# EAGLE library part TPS3851H50EQDRBRQ1 (library TPS3851H50EQDRBRQ1)
Automotive High-Accuracy Voltage Supervisor With Integrated Watchdog Timer Source: Datasheet <http://www.ti.com/lit/gpn/tps3851-q1>
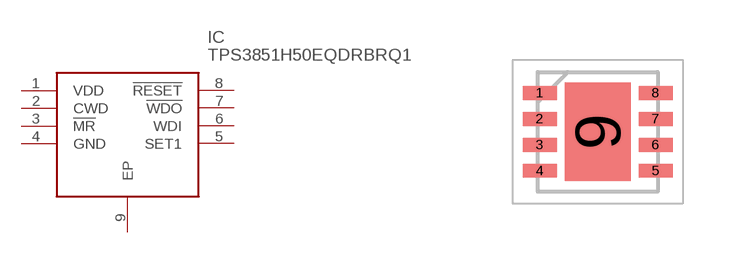
[diagram p0: symbol with the pads of SON65P300X300X100-9N; footprint SON65P300X300X100-9N]

Designator prefix IC

## TPS3851H50EQDRBRQ1 (Arrow_Part_Number: TPS3851H50EQDRBRQ1; Arrow_Price-Stock: https://www.arrow.com/en/products/tps3851h50eqdrbrq1/texas-instruments?utm_currency=USD&region=nac; Description: Automotive High-Accuracy Voltage Supervisor With Integrated Watchdog Timer; Height: 1mm; Manufacturer_Name: Texas Instruments; Manufacturer_Part_Number: TPS3851H50EQDRBRQ1; Mouser_Part_Number: 595-S3851H50EQDRBRQ1; Mouser_Price-Stock: https://www.mouser.com/Search/Refine.aspx?Keyword=595-S3851H50EQDRBRQ1)  [SON65P300X300X100-9N]
1  VDD
2  CWD
3  !MR
4  GND
5  SET1
6  WDI
7  !WDO
8  !RESET
9  EP

## Footprint SON65P300X300X100-9N (pad centres in mm)
son-drb
smd 0.85 x 0.35: 1 -1.45,0.975; 2 -1.45,0.325; 3 -1.45,-0.325; 4 -1.45,-0.975; 5 1.45,-0.975; 6 1.45,-0.325; 7 1.45,0.325; 8 1.45,0.975
smd 1.65 x 2.45: 9 0,0